# EAGLE library part ESP32 (library Custom_evan)
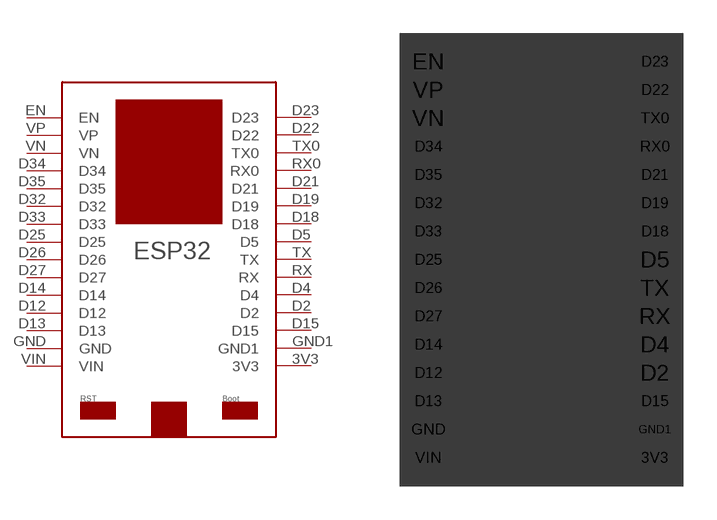
[diagram p0: symbol with the pads of ESP32; footprint ESP32]

Designator prefix -

## ESP32  [ESP32]
3V3  3V3
D2  D2
D4  D4
D5  D5
D12  D12
D13  D13
D14  D14
D15  D15
D18  D18
D19  D19
D21  D21
D22  D22
D23  D23
D25  D25
D26  D26
D27  D27
D32  D32
D33  D33
D34  D34
D35  D35
EN  EN
GND  GND
GND1  GND1
RX  RX
RX0  RX0
TX  TX
TX0  TX0
VIN  VIN
VN  VN
VP  VP

## Footprint ESP32 (pad centres in mm)
drill 0.6 long: 3V3 -6.35,-5.08; D2 -6.35,-1.27; D4 -6.35,0; D5 -6.35,3.81; D12 -16.51,-1.27; D13 -16.51,-2.54; D14 -16.51,0; D15 -6.35,-2.54; D18 -6.35,5.08; D19 -6.35,6.35; D21 -6.35,7.62; D22 -6.35,11.43; D23 -6.35,12.7; D25 -16.51,3.81; D26 -16.51,2.54; D27 -16.51,1.27; D32 -16.51,6.35; D33 -16.51,5.08; D34 -16.51,8.89; D35 -16.51,7.62; EN -16.51,12.7; GND -16.51,-3.81; GND1 -6.35,-3.81; RX -6.35,1.27; RX0 -6.35,8.89; TX -6.35,2.54; TX0 -6.35,10.16; VIN -16.51,-5.08; VN -16.51,10.16; VP -16.51,11.43